# EAGLE library part MPXV5050V (library synfinatic)
Freescale Semiconductor MPXV5050VC6T1 Rev 2, 11/2009 Pressure High Temperature Accuracy Integrated Silicon Pressure Sensor for Measuring Absolute Pressure, On-Chip Signal Conditioned, Temperature Compensated and Calibrated
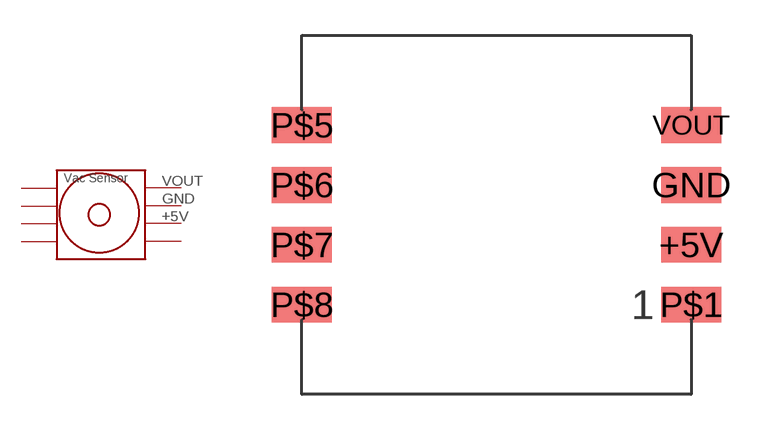
[diagram p9: symbol with the pads of MPXV5050V; footprint MPXV5050V]

Designator prefix -

## MPXV5050V  [MPXV5050V]
+5V  5V  pwr
GND  GND  pwr
P$1  P$1  nc
P$5  P$5  nc
P$6  P$6  nc
P$7  P$7  nc
P$8  P$8  nc
VOUT  VOUT  out

## Footprint MPXV5050V (pad centres in mm)
SOP Footprint (Case 482A)
smd 2.54 x 1.52: +5V 8.255,-1.27; GND 8.255,1.27; P$1 8.255,-3.81; P$5 -8.255,3.81; P$6 -8.255,1.27; P$7 -8.255,-1.27; P$8 -8.255,-3.81; VOUT 8.255,3.81